# Altium schematic symbol library TPS22918TDBVRQ1.SchLib: 1 symbol
Pins are listed as number, name and electrical type; pins without a type are passive.

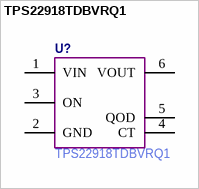
[diagram p0: symbol TPS22918TDBVRQ1]

## TPS22918TDBVRQ1
designator U?  Manufacturer Part Number: TPS22918TDBVRQ1  (hidden comment: *)
pins: 1 VIN, 2 GND, 3 ON, 4 CT, 5 QOD, 6 VOUT